# Altium schematic symbol library CSD19531Q5A.Schlib: 1 symbol
Pins are listed as number, name and electrical type; pins without a type are passive.

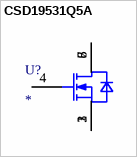
[diagram p0: symbol CSD19531Q5A]

## CSD19531Q5A
designator U?
100V, N ch NexFET MOSFET, single SON5x6, 6.4mOhm 8-VSONP -55 to 150
pins: 1 SOURCE@1, 2 SOURCE@2, 3 SOURCE@3, 4 GATE, 5 DRAIN@1, 6 DRAIN@2, 7 DRAIN@3, 8 DRAIN@4